# Altium schematic symbol library ACTP112.SchLib: 1 symbol
Pins are listed as number, name and electrical type; pins without a type are passive.

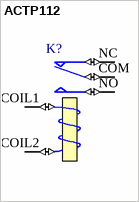
[diagram p0: symbol ACTP112]

## ACTP112
designator K?
SPDT Relay; Published: 8-Jun-2000; LatestRevisionDate: 17-Jul-2002; LatestRevisionNote: Re-released for DXP Platform.; PackageReference: MODULE5B; Publisher: Altium Limited
pins: COIL1 T1 (io), COIL2 T2 (io), COM (io), NC (io), NO (io)